# Altium schematic symbol library SCH - MCU - STM32 - ST MICROELECTRONICS STM32WB55RCVX VFQFPN68.SchLib: 1 symbol
Pins are listed as number, name and electrical type; pins without a type are passive.

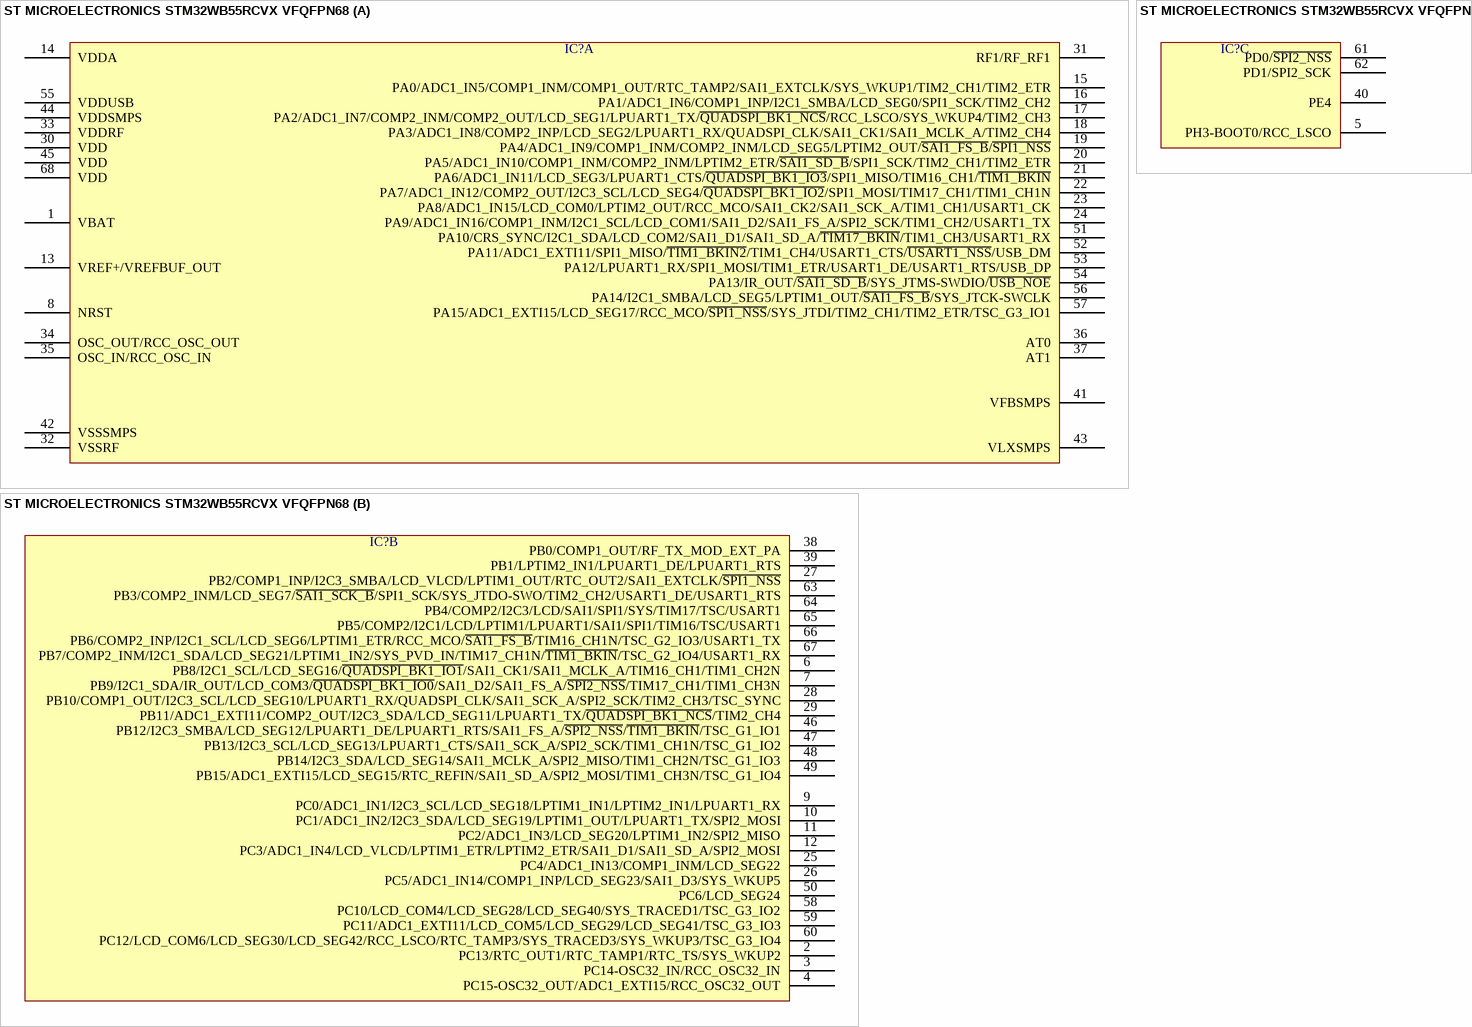
[diagram p0: symbol ST MICROELECTRONICS STM32WB55RCVX VFQFPN68]

## ST MICROELECTRONICS STM32WB55RCVX VFQFPN68
designator IC?  (value not drawn)
part A pins: 1 VBAT, 8 NRST, 13 VREF+/VREFBUF_OUT, 14 VDDA, 15 PA0/ADC1_IN5/COMP1_INM/COMP1_OUT/RTC_TAMP2/SAI1_EXTCLK/SYS_WKUP1/TIM2_CH1/TIM2_ETR, 16 PA1/ADC1_IN6/COMP1_INP/I2C1_SMBA/LCD_SEG0/SPI1_SCK/TIM2_CH2, 17 PA2/ADC1_IN7/COMP2_INM/COMP2_OUT/LCD_SEG1/LPUART1_TX/~{QUADSPI_BK1_NCS}/RCC_LSCO/SYS_WKUP4/TIM2_CH3, 18 PA3/ADC1_IN8/COMP2_INP/LCD_SEG2/LPUART1_RX/QUADSPI_CLK/SAI1_CK1/SAI1_MCLK_A/TIM2_CH4, 19 PA4/ADC1_IN9/COMP1_INM/COMP2_INM/LCD_SEG5/LPTIM2_OUT/~{SAI1_FS_B}/~{SPI1_NSS}, 20 PA5/ADC1_IN10/COMP1_INM/COMP2_INM/LPTIM2_ETR/~{SAI1_SD_B}/SPI1_SCK/TIM2_CH1/TIM2_ETR, 21 PA6/ADC1_IN11/LCD_SEG3/LPUART1_CTS/~{QUADSPI_BK1_IO3}/SPI1_MISO/TIM16_CH1/~{TIM1_BKIN}, 22 PA7/ADC1_IN12/COMP2_OUT/I2C3_SCL/LCD_SEG4/~{QUADSPI_BK1_IO2}/SPI1_MOSI/TIM17_CH1/TIM1_CH1N, 23 PA8/ADC1_IN15/LCD_COM0/LPTIM2_OUT/RCC_MCO/SAI1_CK2/SAI1_SCK_A/TIM1_CH1/USART1_CK, 24 PA9/ADC1_IN16/COMP1_INM/I2C1_SCL/LCD_COM1/SAI1_D2/SAI1_FS_A/SPI2_SCK/TIM1_CH2/USART1_TX, 30 VDD, 31 RF1/RF_RF1, 32 VSSRF, 33 VDDRF, 34 OSC_OUT/RCC_OSC_OUT, 35 OSC_IN/RCC_OSC_IN, 36 AT0, 37 AT1, 41 VFBSMPS, 42 VSSSMPS, 43 VLXSMPS, 44 VDDSMPS, 45 VDD, 51 PA10/CRS_SYNC/I2C1_SDA/LCD_COM2/SAI1_D1/SAI1_SD_A/~{TIM17_BKIN}/TIM1_CH3/USART1_RX, 52 PA11/ADC1_EXTI11/SPI1_MISO/~{TIM1_BKIN2}/TIM1_CH4/USART1_CTS/~{USART1_NSS}/USB_DM, 53 PA12/LPUART1_RX/SPI1_MOSI/TIM1_ETR/USART1_DE/USART1_RTS/USB_DP, 54 PA13/IR_OUT/~{SAI1_SD_B}/SYS_JTMS-SWDIO/~{USB_NOE}, 55 VDDUSB, 56 PA14/I2C1_SMBA/LCD_SEG5/LPTIM1_OUT/~{SAI1_FS_B}/SYS_JTCK-SWCLK, 57 PA15/ADC1_EXTI15/LCD_SEG17/RCC_MCO/~{SPI1_NSS}/SYS_JTDI/TIM2_CH1/TIM2_ETR/TSC_G3_IO1, 68 VDD
part B pins: 2 PC13/RTC_OUT1/RTC_TAMP1/RTC_TS/SYS_WKUP2, 3 PC14-OSC32_IN/RCC_OSC32_IN, 4 PC15-OSC32_OUT/ADC1_EXTI15/RCC_OSC32_OUT, 6 PB8/I2C1_SCL/LCD_SEG16/~{QUADSPI_BK1_IO1}/SAI1_CK1/SAI1_MCLK_A/TIM16_CH1/TIM1_CH2N, 7 PB9/I2C1_SDA/IR_OUT/LCD_COM3/~{QUADSPI_BK1_IO0}/SAI1_D2/SAI1_FS_A/~{SPI2_NSS}/TIM17_CH1/TIM1_CH3N, 9 PC0/ADC1_IN1/I2C3_SCL/LCD_SEG18/LPTIM1_IN1/LPTIM2_IN1/LPUART1_RX, 10 PC1/ADC1_IN2/I2C3_SDA/LCD_SEG19/LPTIM1_OUT/LPUART1_TX/SPI2_MOSI, 11 PC2/ADC1_IN3/LCD_SEG20/LPTIM1_IN2/SPI2_MISO, 12 PC3/ADC1_IN4/LCD_VLCD/LPTIM1_ETR/LPTIM2_ETR/SAI1_D1/SAI1_SD_A/SPI2_MOSI, 25 PC4/ADC1_IN13/COMP1_INM/LCD_SEG22, 26 PC5/ADC1_IN14/COMP1_INP/LCD_SEG23/SAI1_D3/SYS_WKUP5, 27 PB2/COMP1_INP/I2C3_SMBA/LCD_VLCD/LPTIM1_OUT/RTC_OUT2/SAI1_EXTCLK/~{SPI1_NSS}, 28 PB10/COMP1_OUT/I2C3_SCL/LCD_SEG10/LPUART1_RX/QUADSPI_CLK/SAI1_SCK_A/SPI2_SCK/TIM2_CH3/TSC_SYNC, 29 PB11/ADC1_EXTI11/COMP2_OUT/I2C3_SDA/LCD_SEG11/LPUART1_TX/~{QUADSPI_BK1_NCS}/TIM2_CH4, 38 PB0/COMP1_OUT/RF_TX_MOD_EXT_PA, 39 PB1/LPTIM2_IN1/LPUART1_DE/LPUART1_RTS, 46 PB12/I2C3_SMBA/LCD_SEG12/LPUART1_DE/LPUART1_RTS/SAI1_FS_A/~{SPI2_NSS}/~{TIM1_BKIN}/TSC_G1_IO1, 47 PB13/I2C3_SCL/LCD_SEG13/LPUART1_CTS/SAI1_SCK_A/SPI2_SCK/TIM1_CH1N/TSC_G1_IO2, 48 PB14/I2C3_SDA/LCD_SEG14/SAI1_MCLK_A/SPI2_MISO/TIM1_CH2N/TSC_G1_IO3, 49 PB15/ADC1_EXTI15/LCD_SEG15/RTC_REFIN/SAI1_SD_A/SPI2_MOSI/TIM1_CH3N/TSC_G1_IO4, 50 PC6/LCD_SEG24, 58 PC10/LCD_COM4/LCD_SEG28/LCD_SEG40/SYS_TRACED1/TSC_G3_IO2, 59 PC11/ADC1_EXTI11/LCD_COM5/LCD_SEG29/LCD_SEG41/TSC_G3_IO3, 60 PC12/LCD_COM6/LCD_SEG30/LCD_SEG42/RCC_LSCO/RTC_TAMP3/SYS_TRACED3/SYS_WKUP3/TSC_G3_IO4, 63 PB3/COMP2_INM/LCD_SEG7/~{SAI1_SCK_B}/SPI1_SCK/SYS_JTDO-SWO/TIM2_CH2/USART1_DE/USART1_RTS, 64 PB4/COMP2/I2C3/LCD/SAI1/SPI1/SYS/TIM17/TSC/USART1, 65 PB5/COMP2/I2C1/LCD/LPTIM1/LPUART1/SAI1/SPI1/TIM16/TSC/USART1, 66 PB6/COMP2_INP/I2C1_SCL/LCD_SEG6/LPTIM1_ETR/RCC_MCO/~{SAI1_FS_B}/TIM16_CH1N/TSC_G2_IO3/USART1_TX, 67 PB7/COMP2_INM/I2C1_SDA/LCD_SEG21/LPTIM1_IN2/SYS_PVD_IN/TIM17_CH1N/~{TIM1_BKIN}/TSC_G2_IO4/USART1_RX
part C pins: 5 PH3-BOOT0/RCC_LSCO, 40 PE4, 61 PD0/~{SPI2_NSS}, 62 PD1/SPI2_SCK